# Altium footprint library staircase PCB1.PcbLib: 9 footprints
Each footprint in its own frame and in the unit in brackets; x right, y up, seen from the top. Pads: shape width x height; smd on the part's side, far side on the other; paste and mask are expansions set on the pad; w line width, h text height; cw(c..) or ccw(c..) is an arc to the next point about the centre after c.
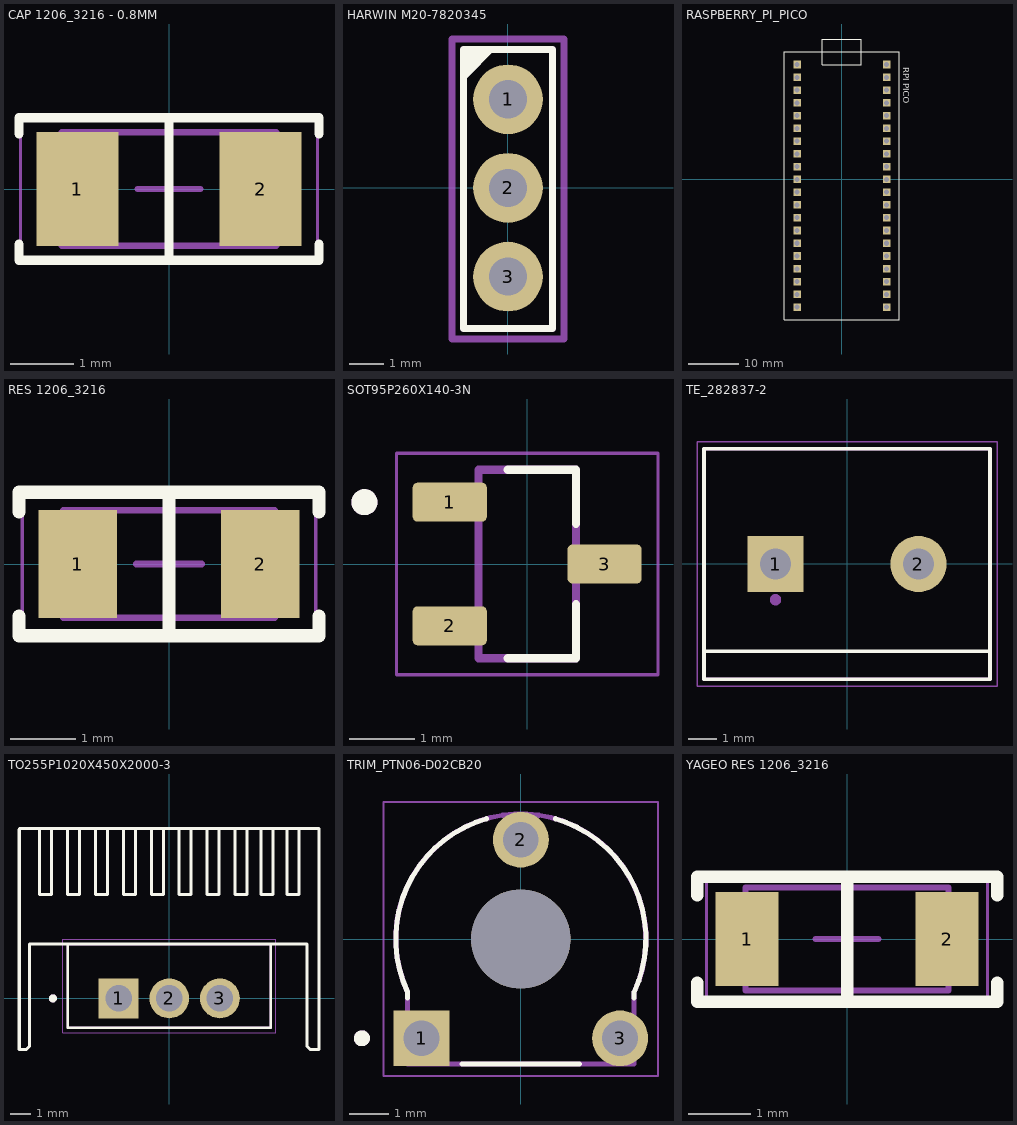
[diagram p0: the footprints below, top view; thin cyan lines are the x and y axes]

## CAP 1206_3216 - 0.8MM [mm] "Chip Capacitor, 2-Leads, Body 3.25x1.60mm, IPC Medium Density"
height 0.8
pads (2):
  rect 1.3x1.8 smd: 1(-1.45,0) 2(1.45,0)
Top Overlay:
  lines w0.15: -2.375,-0.875 -2.375,-1.125 2.375,-1.125 2.375,-0.875 ; -2.375,0.875 -2.375,1.125 2.375,1.125 2.375,0.875 ; 0,-1.125 0,1.125
Mechanical 13:
  lines w0.1: -1.7,-0.9 -1.7,0.9 1.7,0.9 1.7,-0.9 -1.7,-0.9
Mechanical 15:
  lines w0.05: -2.35,-1.15 -2.35,1.15 2.35,1.15 2.35,-1.15 -2.35,-1.15
  lines w0.1: -0.5,0 0.5,0 ; 0,-0.5 0,0.5
3D body "CAP 1206-0.8mm.STEP": height 0.8, standoff 0, extent -1.6,-0.8 1.6,0.8

## HARWIN M20-7820345 [mm] "2.54mm DIL PC TAIL PIN HEADER ASSEMBLY"
height 5
pads (3):
  round 2 hole 1.1: 1(0,2.54) 2(0,0) 3(0,-2.54)
Top Overlay:
  region: -1.23,4 -1.23,3.1 -0.33,4
  lines w0.2: -1.27,-4.03 1.27,-4.03 1.27,3.97 -1.27,3.97 -1.27,-4.03
Top Assembly:
  lines w0.2: -0.5,0 0.5,0 ; 0,-0.5 0,0.5 ; -1.27,-4.03 1.27,-4.03 1.27,3.97 -1.27,3.97 -1.27,-4.03
Top Courtyard:
  lines w0.2: -1.6,-4.33 1.6,-4.33 1.6,4.27 -1.6,4.27 -1.6,-4.33
3D body "M20-7820342.step": height 8.5, standoff -3, extent -1.25,-4.01 1.25,4.01

## RASPBERRY_PI_PICO [mm]
height 1.8
pads (40):
  rect 1.508x1.508 / inner round 1.508 / far side rect 1.508x1.508 hole 1: 3V3(8.89,12.7) 3V3_EN(8.89,15.24) ADC_VREF(8.89,10.16) AGND(8.89,5.08) GND(8.89,17.78) GND2(8.89,-7.62) GND3(8.89,-20.32) GND4(-8.89,17.78) GND5(-8.89,5.08) GND6(-8.89,-7.62) GND7(-8.89,-20.32) GP0(-8.89,22.86) GP1(-8.89,20.32) GP2(-8.89,15.24) GP3(-8.89,12.7) GP4(-8.89,10.16) GP5(-8.89,7.62) GP6(-8.89,2.54) GP7(-8.89,0) GP8(-8.89,-2.54) GP9(-8.89,-5.08) GP10(-8.89,-10.16) GP11(-8.89,-12.7) GP12(-8.89,-15.24) GP13(-8.89,-17.78) GP14(-8.89,-22.86) GP15(-8.89,-25.4) GP16(8.89,-25.4) GP17(8.89,-22.86) GP18(8.89,-17.78) GP19(8.89,-15.24) GP20(8.89,-12.7) GP21(8.89,-10.16) GP22(8.89,-5.08) GP26_A0(8.89,0) GP27_A1(8.89,2.54) GP28_A2(8.89,7.62) RUN(8.89,-2.54) VBUS(8.89,22.86) VSYS(8.89,20.32)
Top Overlay:
  lines w0.152: -11.43,-27.94 -11.43,25.4 11.43,25.4 11.43,-27.94 -11.43,-27.94 ; -3.893,22.86 -3.893,27.94 3.81,27.94 3.81,22.86 -3.893,22.86
  text "RPI PICO" at 12.2,22.35 h1.27
3D body "step_temp.STEP": height 3.73, standoff 0, extent -10.5,-26.77 10.5,25.53

## RES 1206_3216 [mm] "Chip Resistor, 2-Leads, Body 3.13x1.55mm, IPC Medium Density"
height 0.7
pads (2):
  rect 1.2x1.65 smd: 1(-1.4,0) 2(1.4,0)
Top Overlay:
  lines w0.2: -2.3,-0.8 -2.3,-1.1 2.3,-1.1 2.3,-0.8 ; -2.3,0.8 -2.3,1.1 2.3,1.1 2.3,0.8 ; 0,-1.1 0,1.1
Mechanical 13:
  lines w0.1: -1.625,-0.825 1.625,-0.825 1.625,0.825 -1.625,0.825 -1.625,-0.825
Mechanical 15:
  lines w0.05: -2.25,-1.1 2.25,-1.1 2.25,1.1 -2.25,1.1 -2.25,-1.1
  lines w0.1: -0.5,0 0.5,0 ; 0,-0.5 0,0.5
3D body "1206 resistor.STEP": height 0.6, standoff 0, extent -1.6,-0.8 1.6,0.8

## SOT95P260X140-3N [mm]
height 1.4
pads (3):
  rrect25% 1.14x0.6 smd: 1(-1.19,0.95) 2(-1.19,-0.95) 3(1.19,0)
Top Overlay:
  circle w0.2: c-2.5,0.95 r0.1
  lines w0.127: -0.3,-1.45 0.75,-1.45 0.75,-0.62 ; -0.3,1.45 0.75,1.45 0.75,0.62
Mechanical 13:
  circle w0.2: c-2.5,0.95 r0.1
  lines w0.127: -0.75,-1.45 0.75,-1.45 0.75,1.45 -0.75,1.45 -0.75,-1.45
Mechanical 15:
  lines w0.05: -2.01,-1.7 -2.01,1.7 2.01,1.7 2.01,-1.7 -2.01,-1.7
3D body "step_temp.STEP": height 1.4, standoff 0, extent -1.3,-1.45 1.3,1.45

## TE_282837-2 [mm]
height 0.7
pads (2):
  rect 2x2 hole 1.1: 1(-2.54,0)
  round 2 hole 1.1: 2(2.54,0)
Top Overlay:
  lines w0.127: -5.08,-3.1 5.08,-3.1 ; -5.08,-3.1 -5.08,4.1 5.08,4.1 5.08,-3.1 ; -5.08,-3.1 -5.08,-4.1 5.08,-4.1 5.08,-3.1
Mechanical 13:
  circle w0.2: c-2.54,-1.27 r0.1
  lines w0.127: -5.08,-4.1 -5.08,4.1 5.08,4.1 5.08,-4.1 -5.08,-4.1
Mechanical 15:
  lines w0.05: -5.33,-4.35 -5.33,4.35 5.33,4.35 5.33,-4.35 -5.33,-4.35
3D body "step_temp.STEP": height 10, standoff -3.5, extent -5.68,-4.1 5.08,4.1

## TO255P1020X450X2000-3 [mm]
height 20
pads (3):
  rect 1.995x1.995 hole 1.33: 1(-2.54,0)
  round 1.995 hole 1.33: 2(0,0) 3(2.54,0)
Top Overlay:
  circle w0.2: c-5.83,0 r0.1
  lines w0.127: -5.08,-1.478 -5.08,2.717 5.08,2.717 5.08,-1.478 -5.08,-1.478
  lines w0.15: -7.525,-2.548 -7.525,8.448 ; -7.486,-2.547 -7.147,-2.547 ; -6.5,8.5 -6.5,5.2 -5.9,5.2 -5.9,6.225 -5.9,7.475 -5.9,8.5 ; -5.1,8.5 -5.1,5.2 -4.5,5.2 -4.5,6.225 -4.5,7.475 -4.5,8.5 ; -3.7,8.5 -3.7,5.2 -3.1,5.2 -3.1,6.225 -3.1,7.475 -3.1,8.5 ; -2.3,8.5 -2.3,5.2 -1.7,5.2 -1.7,6.225 -1.7,7.475 -1.7,8.5 ; -0.9,8.5 -0.9,5.2 -0.3,5.2 -0.3,6.225 -0.3,7.475 -0.3,8.5 ; 0.5,8.5 0.5,5.2 1.1,5.2 1.1,6.225 1.1,7.475 1.1,8.5 ; 1.9,8.5 1.9,5.2 2.5,5.2 2.5,6.225 2.5,7.475 2.5,8.5 ; 3.3,8.5 3.3,5.2 3.9,5.2 3.9,6.225 3.9,7.475 3.9,8.5 ; 4.6,8.5 4.6,5.2 5.2,5.2 5.2,6.225 5.2,7.475 5.2,8.5 ; 5.9,8.5 5.9,5.2 6.5,5.2 6.5,6.225 6.5,7.475 6.5,8.5 ; 7.5,-2.547 7.5,8.5 -7.5,8.5 -7.5,-2.523 -7.477,-2.547 -7.147,-2.547 ; 7.5,8.447 7.5,-2.544 7.497,-2.547 7.047,-2.547 6.9,-2.4 6.9,2.717 -7,2.717 -7,-2.4 -7.147,-2.547
Mechanical 13:
  circle w0.2: c-5.83,0 r0.1
  lines w0.127: -5.08,-1.478 -5.08,2.717 5.08,2.717 5.08,-1.478 -5.08,-1.478
Mechanical 15:
  lines w0.05: -5.33,-1.728 5.33,-1.728 5.33,2.967 -5.33,2.967 -5.33,-1.728
3D body "step_temp.STEP": height 22.86, standoff -8.38, extent -5.08,-1.473 5.08,2.718

## TRIM_PTN06-D02CB20 [mm]
height 3.6
pads (4):
  rect 1.408x1.408 hole 0.9: 1(-2.5,-2.5)
  round 1.408 hole 0.9: 2(0,2.5) 3(2.5,-2.5)
  round 2.5 hole 2.5 unplated: ""(0,0)
Top Overlay:
  circle w0.2: c-4,-2.5 r0.1
  lines w0.127: -2.855,-1.331 cw(c0,0) -0.868,3.028 ; -2.85,-1.48 -2.85,-1.342 ; -1.48,-3.15 1.48,-3.15 ; 0.868,3.028 cw(c0,0) 2.855,-1.331 ; 2.85,-1.48 2.85,-1.342
Mechanical 13:
  circle w0.2: c-4,-2.5 r0.1
  lines w0.127: -2.855,-1.331 cw(c0,0) 2.855,-1.331 ; -2.85,-1.342 -2.85,-3.15 2.85,-3.15 2.85,-1.342
Mechanical 15:
  lines w0.05: -3.454,-3.454 3.454,-3.454 3.454,3.454 -3.454,3.454 -3.454,-3.454

## YAGEO RES 1206_3216 [mm] "Chip Resistor, 2-Leads, Body 3.13x1.55mm"
height 0.7
pads (2):
  rect 1x1.5 smd: 1(-1.6,0) 2(1.6,0)
Top Overlay:
  lines w0.2: -2.4,-0.7 -2.4,-1 2.4,-1 2.4,-0.7 ; -2.4,0.7 -2.4,1 2.4,1 2.4,0.7 ; 0,-1 0,1
Mechanical 13:
  lines w0.1: -1.625,-0.825 1.625,-0.825 1.625,0.825 -1.625,0.825 -1.625,-0.825
Mechanical 15:
  lines w0.05: -2.25,-1 2.25,-1 2.25,1 -2.25,1 -2.25,-1
  lines w0.1: -0.5,0 0.5,0 ; 0,-0.5 0,0.5
3D body "1206 resistor.STEP": height 0.6, standoff 0, extent -1.6,-0.8 1.6,0.8